# EAGLE library part MC3446 (library Custom)
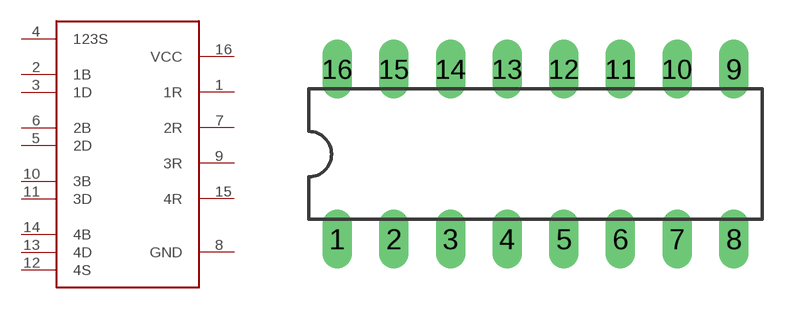
[diagram p43: symbol with the pads of DIL16; footprint DIL16]

Designator prefix -

## MC3446DIL16  [DIL16]
1  1R  out
2  1B  in
3  1D  in
4  123S
5  2D  in
6  2B  in
7  2R  out
8  GND  sup
9  3R  out
10  3B  in
11  3D  in
12  4S
13  4D  in
14  4B  in
15  4R  out
16  VCC  sup

## Footprint DIL16 (pad centres in mm)
Dual In Line Package
drill 0.813 long: 1 -8.89,-3.81; 2 -6.35,-3.81; 3 -3.81,-3.81; 4 -1.27,-3.81; 5 1.27,-3.81; 6 3.81,-3.81; 7 6.35,-3.81; 8 8.89,-3.81; 9 8.89,3.81; 10 6.35,3.81; 11 3.81,3.81; 12 1.27,3.81; 13 -1.27,3.81; 14 -3.81,3.81; 15 -6.35,3.81; 16 -8.89,3.81